# Altium footprint library 2019-06-13_14-50-14.PcbLib: 1 footprints
Each footprint in its own frame and in the unit in brackets; x right, y up, seen from the top. Pads: shape width x height; smd on the part's side, far side on the other; paste and mask are expansions set on the pad; w line width, h text height; cw(c..) or ccw(c..) is an arc to the next point about the centre after c.
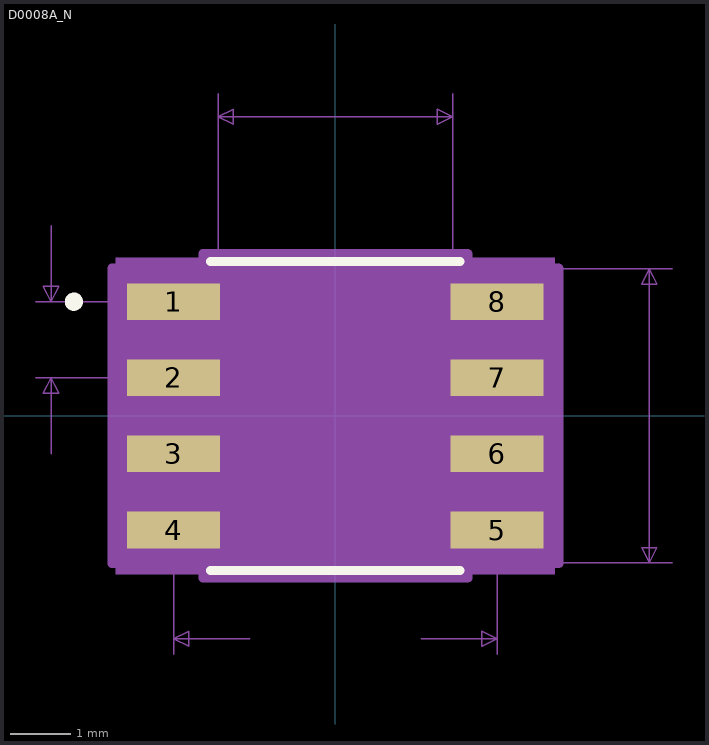
[diagram p0: the footprint, top view; thin cyan lines are the x and y axes]

## D0008A_N [mil]
pads (8):
  rect 61x24 smd paste+0 mask+3: 1(-106.3,75) 2(-106.3,25) 3(-106.3,-25) 4(-106.3,-75) 5(106.3,-75) 6(106.3,-25) 7(106.3,25) 8(106.3,75)
Top Overlay:
  circle w6: c-171.8,75 r3
  lines w6: -82,-101.5 82,-101.5 ; -82,101.5 82,101.5
Mechanical 5:
  region: 144.3,-104 -144.3,-104 -144.3,104 144.3,104
Mechanical 7:
  lines w1: -196.8,25 -106.3,25 ; -196.8,75 -106.3,75 ; -186.8,-25 -186.8,25 ; -186.8,125 -186.8,75 ; -106.3,-156.5 -106.3,-75 ; -77,96.5 -77,211.5 ; -56.3,-146.5 -106.3,-146.5 ; 56.3,-146.5 106.3,-146.5 ; 77,-96.5 221.3,-96.5 ; 77,211.5 77,96.5 221.3,96.5 ; 106.3,-156.5 106.3,-75 ; -186.8,25 -181.8,15 -191.8,15 -186.8,25 ; -186.8,75 -181.8,85 -191.8,85 -186.8,75 ; -106.3,-146.5 -96.3,-151.5 -96.3,-141.5 -106.3,-146.5 ; -77,196.5 77,196.5 ; -77,196.5 -67,201.5 -67,191.5 -77,196.5 ; 77,196.5 67,201.5 67,191.5 77,196.5 ; 106.3,-146.5 96.3,-151.5 96.3,-141.5 106.3,-146.5 ; 206.3,-96.5 206.3,96.5 ; 206.3,-96.5 201.3,-86.5 211.3,-86.5 206.3,-96.5 ; 206.3,96.5 201.3,86.5 211.3,86.5 206.3,96.5
  text "Default Padstyle: r155_61" at -312.5,-296.5 h50
  text "Pin 1 Padstyle: r155_61" at -287.5,-356.5 h50
  text "Alt 1 Padstyle: b152_229h76" at -337.5,-536.5 h50
  text "Alt 2 Padstyle: b229_152h76" at -337.5,-596.5 h50
  text ".05in/1.27mm" at -346.8,37.5 h25
  text ".2125984in/5.4mm" at -100,-171.5 h25
  text "0.154in/3.912mm" at -93.75,216.5 h25
  text "0.193in/4.902mm" at 226.3,-12.5 h25
Mechanical 13:
  circle w0: c-67,75 r3
  lines w0: -12,96.5 ccw(c0,96.5) 12,96.5
  lines w1: -77,-96.5 77,-96.5 77,96.5 -77,96.5 -77,-96.5
Mechanical 15:
  region: -87,-97 -146.8,-97 -146.8,97 -87,97 -87,106.5 87,106.5 87,97 146.8,97 146.8,-97 87,-97 87,-106.5 -87,-106.5
  lines w6: -146.8,-97 -146.8,97 -87,97 -87,106.5 87,106.5 87,97 146.8,97 146.8,-97 87,-97 87,-106.5 -87,-106.5 -87,-97 -146.8,-97
3D body: height 10, standoff 0, extent 0,0 10,10